# Altium schematic symbol library Broadcom.SchLib: 1 symbol
Pins are listed as number, name and electrical type; pins without a type are passive.

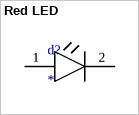
[diagram p0: symbol Red LED]

## Red LED
designator d?
Red diffused LED
footprint 0805 - diode
pins: 1, 2